# EAGLE library part HARTING-DSUB-15-FEMALE (library nma-eagle)
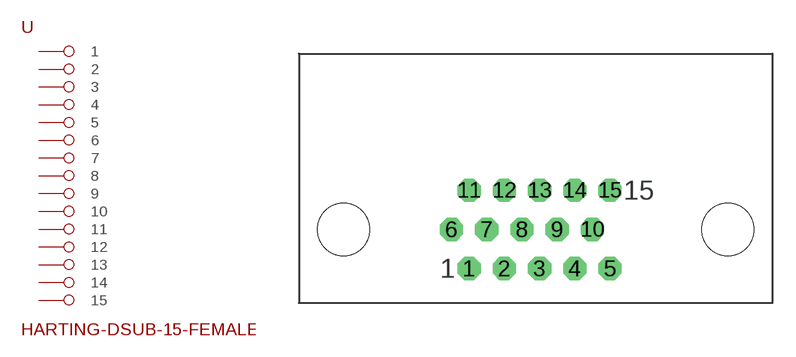
[diagram p11: symbol with the pads of HARTING-DSUB-15-FEMALE; footprint HARTING-DSUB-15-FEMALE]

Designator prefix -

## HARTING-DSUB-15-FEMALE  [HARTING-DSUB-15-FEMALE]
1  1  pas
2  2  pas
3  3  pas
4  4  pas
5  5  pas
6  6  pas
7  7  pas
8  8  pas
9  9  pas
10  10  pas
11  11  pas
12  12  pas
13  13  pas
14  14  pas
15  15  pas

## Footprint HARTING-DSUB-15-FEMALE (pad centres in mm)
Harting D-Sub 15 female connector https://b2b.harting.com/files/download/PRD/PDF_TS/0956152X613_100510341DRW001D.pdf
drill 1 octagon: 1 -4.325,-5.87; 2 -2.035,-5.87; 3 0.255,-5.87; 4 2.545,-5.87; 5 4.835,-5.87; 6 -5.47,-3.33; 7 -3.18,-3.33; 8 -0.89,-3.33; 9 1.4,-3.33; 10 3.69,-3.33; 11 -4.325,-0.79; 12 -2.035,-0.79; 13 0.255,-0.79; 14 2.545,-0.79; 15 4.835,-0.79
hole 3.4 at 12.5,-3.33
hole 3.4 at -12.5,-3.33